# Altium footprint library ILI9341.PcbLib: 1 footprints
Each footprint in its own frame and in the unit in brackets; x right, y up, seen from the top. Pads: shape width x height; smd on the part's side, far side on the other; paste and mask are expansions set on the pad; w line width, h text height; cw(c..) or ccw(c..) is an arc to the next point about the centre after c.
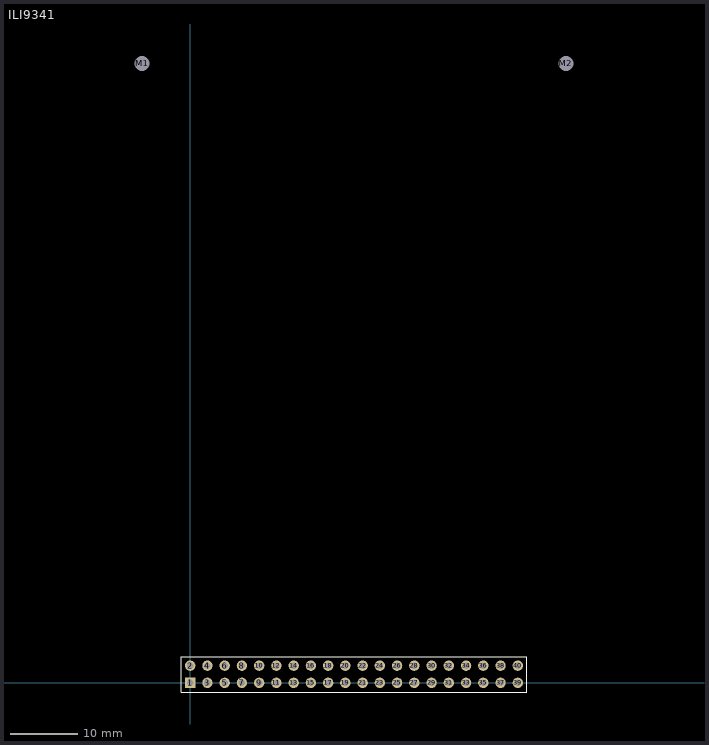
[diagram p0: the footprint, top view; thin cyan lines are the x and y axes]

## ILI9341 [mil]
pads (42):
  rect 60x60 hole 38: 1(0,0)
  round 60 hole 38: 2(0,100) 3(100,0) 4(100,100) 5(200,0) 6(200,100) 7(300,0) 8(300,100) 9(400,0) 10(400,100) 11(500,0) 12(500,100) 13(600,0) 14(600,100) 15(700,0) 16(700,100) 17(800,0) 18(800,100) 19(900,0) 20(900,100) 21(1000,0) 22(1000,100) 23(1100,0) 24(1100,100) 25(1200,0) 26(1200,100) 27(1300,0) 28(1300,100) 29(1400,0) 30(1400,100) 31(1500,0) 32(1500,100) 33(1600,0) 34(1600,100) 35(1700,0) 36(1700,100) 37(1800,0) 38(1800,100) 39(1900,0) 40(1900,100)
  round 78.74 hole 86.61: M1(-278.35,3593.23) M2(2178.35,3593.23)
Top Overlay:
  lines w5: -52.5,-54 1953,-54 1953,152.5 -52.5,152.5 -52.5,-54
3D body "32_ILI9341_16bit.STEP": height 631.1, standoff 109.84, extent -329.53,-80 2229.53,3644.41
3D body "female_header_a-bl254-dg-g14d.stp": height 334.65, standoff -125.98, extent 1245.08,-48.42 1954.92,148.43
3D body "female_header_a-bl254-dg-g14d.stp": height 334.65, standoff -125.98, extent 645.08,-48.42 1354.92,148.43
3D body "female_header_a-bl254-dg-g14d.stp": height 334.65, standoff -125.98, extent -54.92,-48.42 654.92,148.43